# Altium schematic symbol library CC0603KRX5R5BB106.SchLib: 1 symbol
Pins are listed as number, name and electrical type; pins without a type are passive.

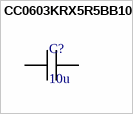
[diagram p0: symbol CC0603KRX5R5BB106]

## CC0603KRX5R5BB106
designator C?, comment 10u
CC0603KRX5R5BB106 10 uF, 10%, 6.3 VDC, X5R; Manufacturer_Part_Number: CC0603KRX5R5BB106
footprint CAPC17595_87N_KEM
pins: 1, 2